# Altium footprint library L50T-TEST.PcbLib: 28 footprints (part 1 of 2)
Each footprint in its own frame and in the unit in brackets; x right, y up, seen from the top. Pads: shape width x height; smd on the part's side, far side on the other; paste and mask are expansions set on the pad; w line width, h text height; cw(c..) or ccw(c..) is an arc to the next point about the centre after c.
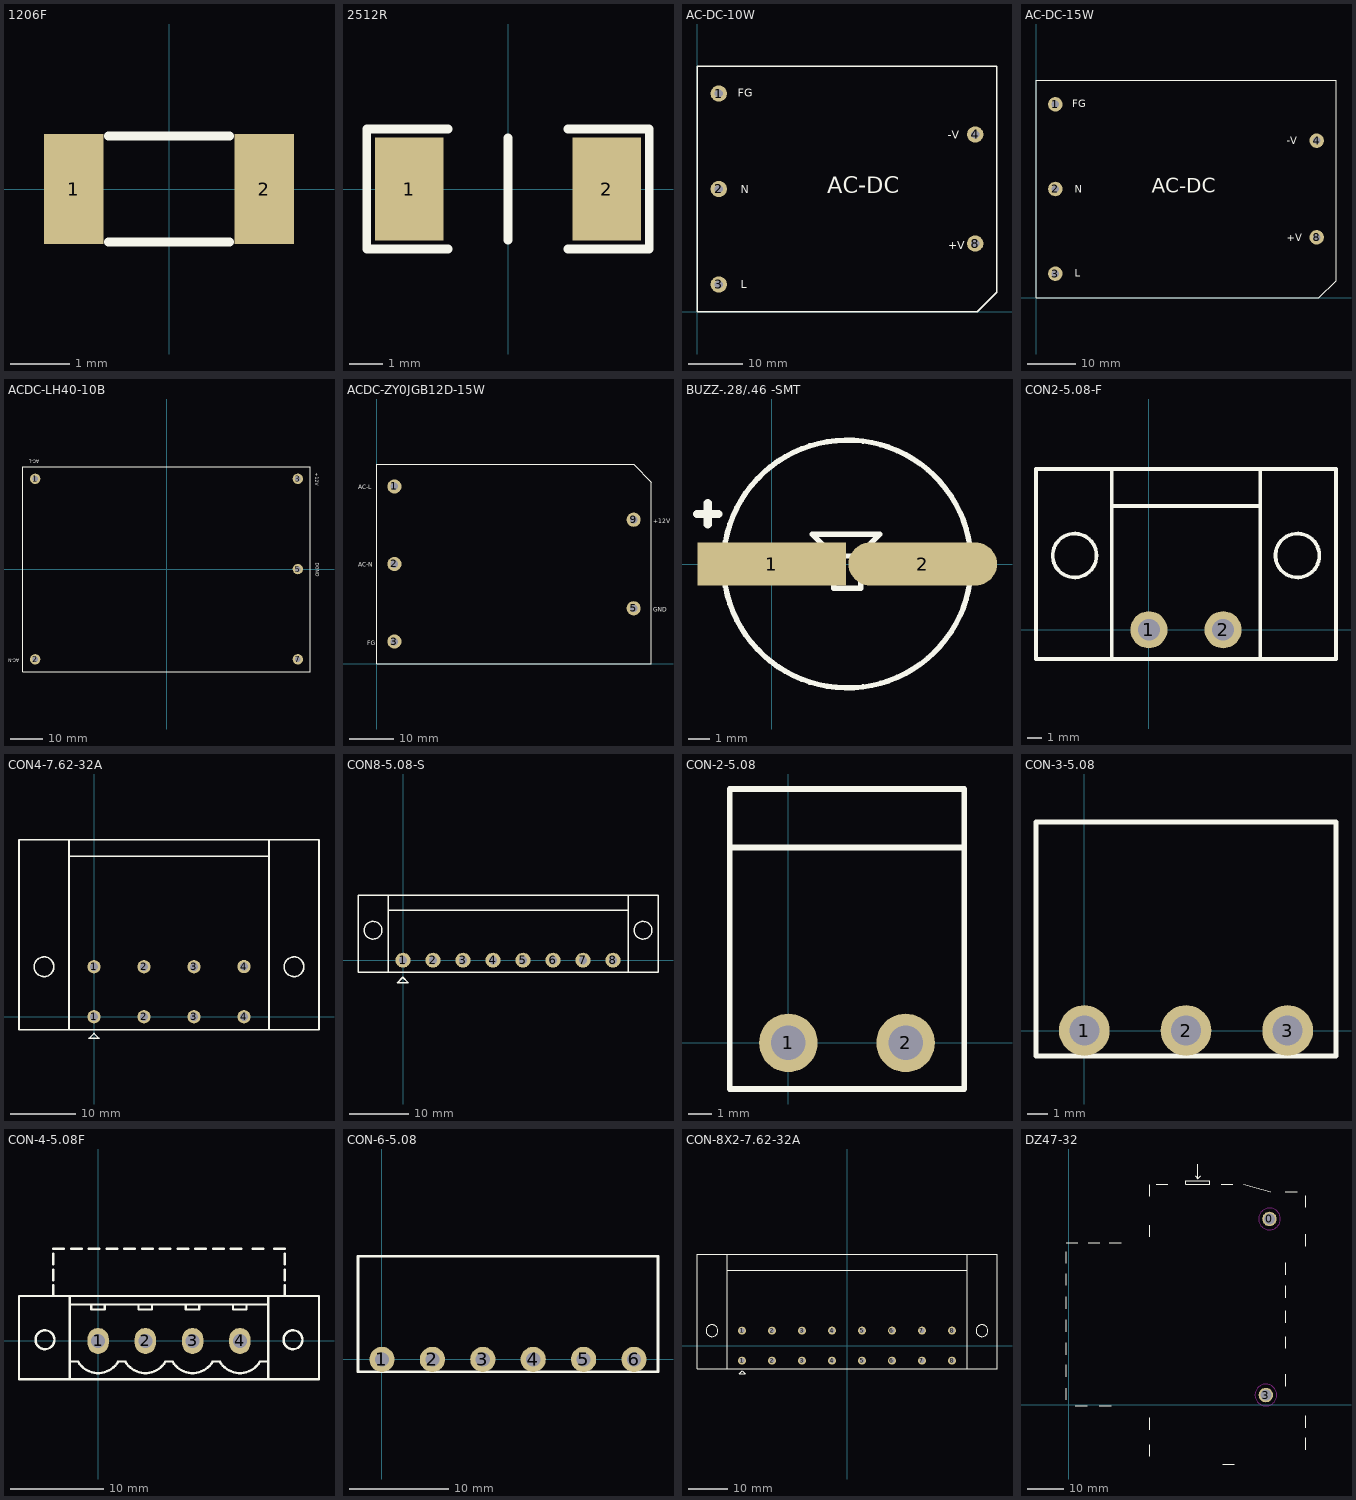
[diagram p0: the footprints below, top view; thin cyan lines are the x and y axes]

## 1206F [mm] "Chip Capacitor, 2-Leads, Body 3.25x1.65mm, IPC Medium Density"
height 0.9
pads (2):
  rect 1x1.85 smd: 1(-1.6,0) 2(1.6,0)
Top Overlay:
  lines w0.152: -1.016,-0.889 1.016,-0.889 ; -1.016,0.889 -0.508,0.889 0.508,0.889 1.016,0.889
3D body "User Library-Litttlefuse 12061206L012.STEP": height 1.43, standoff -0.03, extent -1.601,-0.826 1.601,0.826

## 2512R [mil]
pads (2):
  rect 80x120 smd: 1(-115,0) 2(115,0)
Top Overlay:
  lines w10: -70,-70 -165,-70 -165,70 -70,70 ; 0,-60 0,60 ; 70,-70 165,-70 165,70 70,70
3D body "User Library-RESC6432X06.STEP": height 23.62, standoff 0, extent -125.98,-62.99 125.99,63

## AC-DC-10W [mm]
height 0.572
pads (5):
  round 3 hole 1.5: 1(4,40) 2(4,22.5) 3(4,5) 4(51,32.5) 8(51,12.5)
Top Overlay:
  lines w0.254: 0,0 0,45 55,45 55,3.58 51.42,0 0,0
  text "FG" at 7.493,39.37 h1.5
  text "N" at 8.001,21.717 h1.5
  text "L" at 8.001,4.318 h1.5
  text "-V" at 45.974,31.75 h1.5
  text "+V" at 46.101,11.43 h1.5
  text "AC-DC" at 23.876,21.717 h3

## AC-DC-15W [mm]
height 0.572
pads (5):
  round 3 hole 1.5: 1(4,40) 2(4,22.5) 3(4,5) 4(58,32.5) 8(58,12.5)
Top Overlay:
  lines w0.254: 0,0 0,45 62,45 62,3.58 58.42,0 0,0
  text "FG" at 7.493,39.37 h1.5
  text "N" at 8.001,21.717 h1.5
  text "L" at 8.001,4.318 h1.5
  text "-V" at 51.816,31.75 h1.5
  text "+V" at 51.816,11.684 h1.5
  text "AC-DC" at 23.876,21.717 h3

## ACDC-LH40-10B [mm]
pads (5):
  round 3.2 hole 1.7: 1(-40.65,27.94) 2(-40.65,-27.94) 3(40.65,27.94) 5(40.65,0) 7(40.65,-27.94)
Top Overlay:
  lines w0.254: -44.5,-31.75 -44.5,31.75 44.5,31.75 44.5,-31.75 -44.5,-31.75
  text "+12V" at 46.101,29.743 h1.02
  text "DGND" at 46.177,1.905 h1.02
  text "AC-N" at -45.669,-27.711 h1.02
  text "AC-L" at -39.345,33.884 h1.02

## ACDC-ZY0JGB12D-15W [mm] "AC-DC模块"
pads (5):
  round 3.2 hole 1.7: 1(4,40) 2(4,22.5) 3(4,5) 5(58,12.5) 9(58,32.5)
Top Overlay:
  lines w0.254: 0,0 0,45 54,45 58,45 62,41 62,0 0,0
  text "AC-L" at -4.216,39.395 h1.02
  text "AC-N" at -4.216,21.869 h1.02
  text "FG" at -2.159,4.191 h1.02
  text "+12V" at 62.484,31.75 h1.02
  text "GND" at 62.459,11.684 h1.02

## BUZZ-.28/.46 -SMT [mil]
pads (2):
  rect 275.59x80 smd: 1(0,0)
  oval 275.59x80 smd: 2(280,0)
Top Overlay:
  circle w10: c140,0 r230
  lines w10: 52,1 115,1 ; 165,1 228,1 ; 165,19.94 200,54.94 75,54.94 115,14.94 ; 115,14.94 165,14.94 165,-45.06 115,-45.06 115,14.94
  lines w15: -139,93 -99,93 ; -119,73 -119,113

## CON2-5.08-F [mil]
pads (2):
  round 100 hole 59: 1(0,0) 2(200,0)
Top Overlay:
  circle w10: c-200,200 r59.06
  circle w10: c400,200 r59.06
  lines w10: -100,333.07 300,333.07 ; -100,-78.74 300,-78.74 ; -100,-78.74 -100,433.07 ; -100,-78.74 -303.94,-78.74 -303.94,433.07 -100,433.07 ; -100,433.07 300,433.07 ; 300,-78.74 300,433.07 ; 300,-78.74 503.94,-78.74 503.94,433.07 300,433.07

## CON4-7.62-32A [mil]
pads (8):
  round 80 hole 50: 1(0,0) 1(0,300) 2(300,0) 2(300,300) 3(600,0) 3(600,300) 4(900,0) 4(900,301)
Top Overlay:
  circle w10: c-300,300 r59.06
  circle w10: c1200,300 r59.06
  lines w10: -150,962.99 1050,962.99 ; -150,-78.74 -150,1062.99 ; -150,-78.74 1050,-78.74 ; -150,-78.74 -450,-78.74 -450,1062.99 -150,1062.99 ; -150,1062.99 1050,1062.99 ; 1050,-78.74 1050,1062.99 ; 1050,-78.74 1350,-78.74 1350,1062.99 1050,1062.99 ; -30,-130 30,-130 0,-100 -30,-130

## CON8-5.08-S [mil]
pads (8):
  round 100 hole 56: 1(0,0) 2(200,0) 3(400,0) 4(600,0) 5(800,0) 6(1000,0) 7(1200,0) 8(1400,0)
Top Overlay:
  circle w10: c-200,200 r59.06
  circle w10: c1600,200 r59.06
  lines w10: -100,333.07 1500,333.07 ; -100,-78.74 -100,433.07 ; -100,-78.74 1500,-78.74 ; -100,-78.74 -300,-78.74 -300,433.07 -100,433.07 ; -100,433.07 1500,433.07 ; 1500,-78.74 1500,433.07 ; 1500,-78.74 1700,-78.74 1700,433.07 1500,433.07 ; -37,-150 -1,-114 34,-149 -36,-149 -37,-150

## CON-2-5.08 [mil]
pads (2):
  round 100 hole 59: 1(0,0) 2(200,0)
Top Overlay:
  lines w10: -100,333.07 300,333.07 ; -100,-78.74 -100,433.07 300,433.07 300,-78.74 -100,-78.74

## CON-3-5.08 [mil]
pads (3):
  round 100 hole 59: 1(0,0) 2(200,0) 3(400,0)
Top Overlay:
  lines w10: -95,-50 495,-50 495,410 -95,410 -95,-50

## CON-4-5.08F [mil]
pads (4):
  oval 90x110 hole 60: 1(0,0) 2(200,0) 3(400,0) 4(600,0)
Top Overlay:
  circle w10: c-225,5 r40
  circle w10: c825,5 r40
  lines w10: -190,190 -190,235 ; -190,257.5 -190,302.5 ; -190,325 -190,370 ; -190,390 -145,390 ; -170,-162 720,-162 ; -120,154 716,154 ; -120,190 -120,-162 -335,-162 -335,190 935,190 935,-162 720,-162 ; -114.78,390 -69.78,390 ; -114.76,-87 -85.24,-87 ccw(c0,-37.79) 85.24,-87 114.76,-87 ccw(c200,-37.79) 285.24,-87 314.76,-87 ccw(c400,-37.79) 485.24,-87 514.76,-87 ccw(c600,-37.79) 685.24,-87 714.76,-87 ; -39.57,390 5.43,390 ; -29,154 -29,133 28,133 28,154 ; 35.65,390 80.65,390 ; 110.87,390 155.87,390 ; 171,154 171,133 228,133 228,154 ; 186.09,390 231.09,390 ; 261.3,390 306.3,390 ; 336.52,390 381.52,390 ; 371,154 371,133 428,133 428,154 ; 411.74,390 456.74,390 ; 486.96,390 531.96,390 ; 562.17,390 607.17,390 ; 571,154 571,133 628,133 628,154 ; 655,390 700,390 ; 720,190 720,-162 ; 745,390 790,390 ; 790,190 790,235 ; 790,257.5 790,302.5 ; 790,325 790,370

## CON-6-5.08 [mil]
pads (6):
  round 100 hole 56: 1(0,0) 2(200,0) 3(400,0) 4(600,0) 5(800,0) 6(1000,0)
Top Overlay:
  lines w10: -95,-50 1095,-50 1095,410 -95,410 -95,-50

## CON-8X2-7.62-32A [mil]
height 7.87
pads (16):
  round 80 hole 50: 1(-1050,-150.5) 1(-1050,149.5) 2(-750,-150.5) 2(-750,149.5) 3(-450,-150.5) 3(-450,149.5) 4(-150,-150.5) 4(-150,150.5) 5(150,-150.5) 5(150,150.5) 6(450,-150.5) 6(450,150.5) 7(750,-150.5) 7(750,150.5) 8(1050,-150.5) 8(1050,150.5)
Top Overlay:
  circle w10: c-1350,149.5 r59.06
  circle w10: c1350,149.5 r59.06
  lines w10: -1200,755.01 900,755.01 ; 896.01,912.49 600,912.49 300,912.49 0,912.49 -1200,912.49 ; 900,912.49 1200,912.49 ; -1200,-229.24 -1200,912.49 ; -1200,-229.24 0,-229.24 300,-229.24 600,-229.24 900,-229.24 1200,-229.24 ; -1200,-229.24 -1500,-229.24 -1500,912.49 -1200,912.49 ; 1200,-229.24 1500,-229.24 1500,912.49 1200,912.49 ; 1200,-229.24 1200,912.49 ; -1080,-280.5 -1020,-280.5 -1050,-250.5 -1080,-280.5
  lines w12.01: 900,755.01 1189.99,755.01 1199.99,755.01 ; 1199.99,755.01 1200,755
3D body: height 472.44, standoff 0, extent -1505,-228 1505,917.49

## DZ47-32 [mm]
pads (2):
  round 4 hole 3: 0(55.245,51.224) 3(54.245,2.724)
Top Overlay:
  lines w0.254: -0.755,1.41 -0.755,4.648 ; -0.755,7.76 -0.755,10.998 ; -0.755,13.856 -0.755,17.094 ; -0.755,20.206 -0.755,23.444 ; -0.755,26.556 -0.755,29.794 ; -0.755,32.906 -0.755,36.144 ; -0.755,39.002 -0.755,42.24 ; -0.755,44.724 2.483,44.724 ; 1.785,-0.276 5.023,-0.276 ; 5.277,44.724 8.515,44.724 ; 8.389,-0.276 11.627,-0.276 ; 11.119,44.724 14.357,44.724 ; 22.245,-14.148 22.245,-10.91 ; 22.245,-6.782 22.245,-3.544 ; 22.295,46.304 22.295,49.542 ; 22.295,57.48 22.295,60.718 ; 24.007,60.724 27.245,60.724 ; 34.741,63.068 35.503,62.306 ; 35.503,66.37 35.503,62.306 ; 35.821,60.724 38.805,60.724 ; 36.265,63.068 35.503,62.306 ; 38.687,60.724 32.963,60.724 32.201,60.724 32.201,61.798 38.805,61.798 38.805,60.842 38.745,60.782 ; 41.917,60.724 45.155,60.724 ; 42.361,-16.276 45.599,-16.276 ; 48.203,60.724 55.647,58.75 ; 59.633,58.724 62.871,58.724 ; 59.745,5.156 59.745,8.394 ; 59.745,15.57 59.745,18.808 ; 59.745,22.682 59.745,25.92 ; 59.745,29.54 59.745,32.778 ; 59.745,35.89 59.745,39.128 ; 65.221,-6.274 65.221,-3.036 ; 65.221,43.764 65.221,47.002 ; 65.245,-12.306 65.245,-9.068 ; 65.245,54.432 65.245,57.67
Bottom Overlay:
  circle w0.254: c55.245,51.224 r3
  circle w0.254: c54.245,2.724 r3
Keep-Out Layer:
  circle w0.254: c54.245,2.724 r3
  circle w0.254: c55.245,51.224 r3